# Altium schematic symbol library SCH - POWER - MODULE - MURATA NXE.SCHLIB: 1 symbol
Pins are listed as number, name and electrical type; pins without a type are passive.

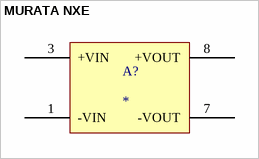
[diagram p0: symbol MURATA NXE]

## MURATA NXE
designator A?
pins: 1 -VIN, 3 +VIN, 7 -VOUT, 8 +VOUT